# Altium schematic symbol library LD1085D2M-R.Schlib: 1 symbol
Pins are listed as number, name and electrical type; pins without a type are passive.

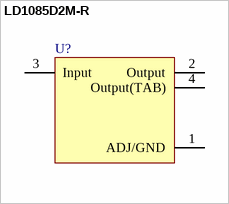
[diagram p0: symbol LD1085D2M-R]

## LD1085D2M-R
designator U?
3 A low drop positive voltage regulator
pins: 1 ADJ/GND (power), 2 Output (power), 3 Input (power), 4 Output(TAB) (power)